# Altium footprint library PcbLib1.PcbLib: 30 footprints (part 1 of 2)
Each footprint in its own frame and in the unit in brackets; x right, y up, seen from the top. Pads: shape width x height; smd on the part's side, far side on the other; paste and mask are expansions set on the pad; w line width, h text height; cw(c..) or ccw(c..) is an arc to the next point about the centre after c.
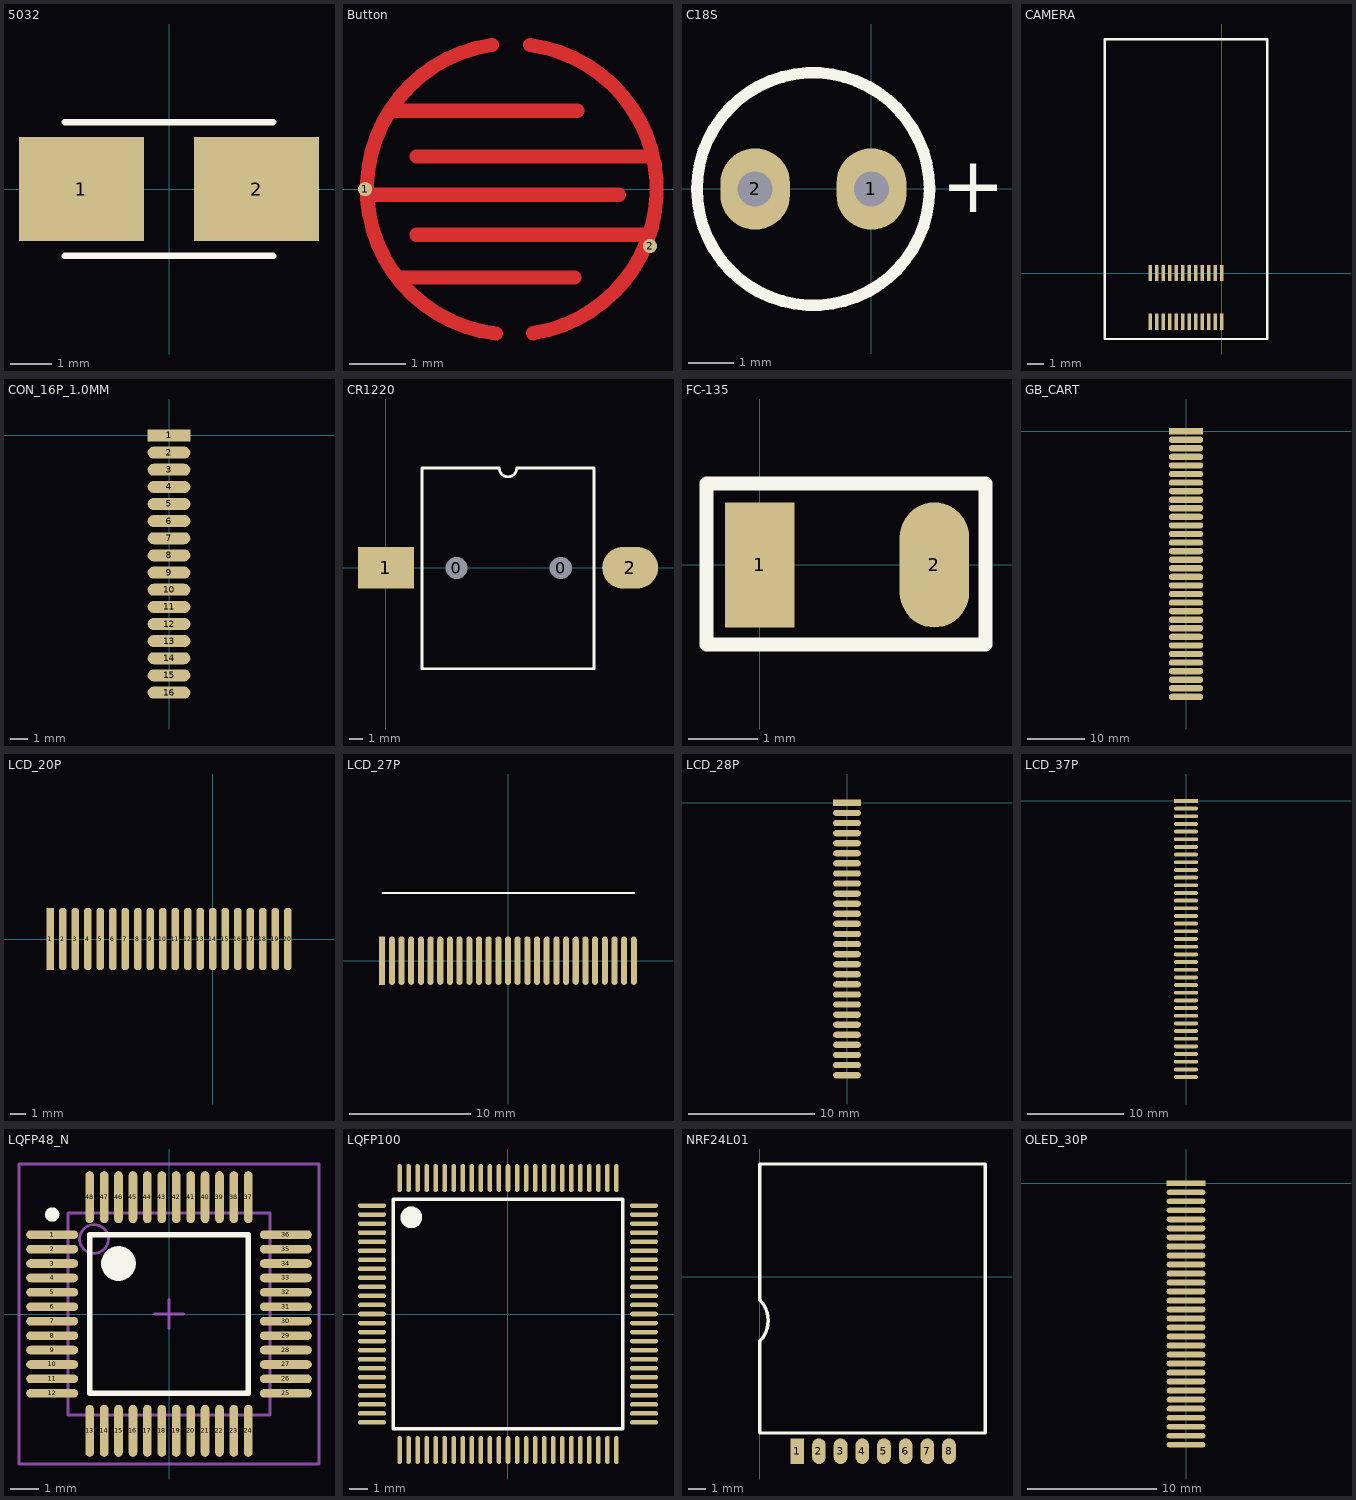
[diagram p0: the footprints below, top view; thin cyan lines are the x and y axes]

## 5032 [mm]
pads (2):
  rect 3x2.5 smd: 1(-2.1,0) 2(2.1,0)
Top Overlay:
  lines w0.152: -2.5,-1.6 2.5,-1.6 ; -2.5,1.6 2.5,1.6

## Button [mil]
pads (2):
  round 10 smd: 1(120,0) 2(320,-40)
Top Layer:
  lines w10: 124,-4 298,-4 ; 138,55 269,55 ; 143,-62 267,-62 ; 156,-32 319,-32 320,-31 ; 156,23 321,23 ; 208.82,101.24 ccw(c223.45,0.14) 211.96,-101.38 ; 235.89,101.15 cw(c222.55,-0.14) 238.02,-101.12
Top Paste:
  lines w10: 123,-4 298,-4 ; 138,55 269,55 ; 143,-62 267,-62 ; 156,-32 318,-32 ; 156,23 321,23 ; 208.82,101.24 ccw(c223.45,0.14) 211.96,-101.38 ; 235.89,101.15 cw(c222.55,-0.14) 238.02,-101.12
Top Solder:
  lines w14: 123,-4 298,-4 ; 138,55 269,55 ; 141,-63 142,-62 267,-62 ; 156,-32 318,-32 ; 156,23 322,23 ; 208.82,101.24 ccw(c223.45,0.14) 211.96,-101.38 ; 236.32,101.63 cw(c223,0.5) 238.44,-100.32

## C18S [mil]
pads (2):
  oval 60x70 hole 30: 1(0,0) 2(-100,0)
Top Overlay:
  circle w10: c-50,0 r100
  text "+" at 60,-20 h48

## CAMERA [mm]
pads (24):
  rect 0.2x1 smd: 1(0,0) 2(-0.4,0) 3(-0.8,0) 4(-1.2,0) 5(-1.6,0) 6(-2,0) 7(-2.4,0) 8(-2.8,0) 9(-3.2,0) 10(-3.6,0) 11(-4,0) 12(-4.4,0) 13(-4.4,-3) 14(-4,-3) 15(-3.6,-3) 16(-3.2,-3) 17(-2.8,-3) 18(-2.4,-3) 19(-2,-3) 20(-1.6,-3) 21(-1.2,-3) 22(-0.8,-3) 23(-0.4,-3) 24(0,-3)
Top Overlay:
  lines w0.152: -7.204,-4.065 -7.204,14.435 ; -7.204,14.451 -7.178,14.426 2.804,14.426 ; -7.2,-4.065 2.8,-4.065 ; 2.804,-4.065 2.804,14.435

## CON_16P_1.0MM [mm]
pads (16):
  rect 2.5x0.7 smd: 1(0,0)
  oval 2.5x0.7 smd: 2(0,-1) 3(0,-2) 4(0,-3) 5(0,-4) 6(0,-5) 7(0,-6) 8(0,-7) 9(0,-8) 10(0,-9) 11(0,-10) 12(0,-11) 13(0,-12) 14(0,-13) 15(0,-14) 16(0,-15)

## CR1220 [mm]
pads (4):
  round 1.5 hole 1.6: 0(5.055,-0.025) 0(12.522,-0.025)
  rect 4x3 smd: 1(0,0)
  oval 4x3 smd: 2(17.5,0)
Top Overlay:
  lines w0.2: 2.585,-7.239 14.915,-7.239 14.915,7.143 9.375,7.143 cw(c8.75,7.143) 8.125,7.143 2.585,7.143 2.585,-7.239

## FC-135 [mm]
pads (2):
  rect 1x1.8 smd: 1(0,0)
  oval 1x1.8 smd: 2(2.515,0)
Top Overlay:
  lines w0.2: -0.762,-1.143 3.251,-1.143 3.251,1.168 -0.762,1.168 -0.762,-1.143

## GB_CART [mm]
pads (32):
  rect 6x1.1 smd: 1(0,0)
  oval 6x1.1 smd: 2(0,-1.5) 3(0,-3) 4(0,-4.5) 5(0,-6) 6(0,-7.5) 7(0,-9) 8(0,-10.5) 9(0,-12) 10(0,-13.5) 11(0,-15) 12(0,-16.5) 13(0,-18) 14(0,-19.5) 15(0,-21) 16(0,-22.5) 17(0,-24) 18(0,-25.5) 19(0,-27) 20(0,-28.5) 21(0,-30) 22(0,-31.5) 23(0,-33) 24(0,-34.5) 25(0,-36) 26(0,-37.5) 27(0,-39) 28(0,-40.5) 29(0,-42) 30(0,-43.5) 31(0,-45) 32(0,-46.5)

## LCD_20P [mm]
pads (20):
  rect 0.5x4 smd: 1(-10.4,0)
  oval 0.5x4 smd: 2(-9.6,0) 3(-8.8,0) 4(-8,0) 5(-7.2,0) 6(-6.4,0) 7(-5.6,0) 8(-4.8,0) 9(-4,0) 10(-3.2,0) 11(-2.4,0) 12(-1.6,0) 13(-0.8,0) 14(0,0) 15(0.8,0) 16(1.6,0) 17(2.4,0) 18(3.2,0) 19(4,0) 20(4.8,0)

## LCD_27P [mm]
pads (27):
  rect 0.5x4 smd: 1(-10.4,0)
  oval 0.5x4 smd: 2(-9.6,0) 3(-8.8,0) 4(-8,0) 5(-7.2,0) 6(-6.4,0) 7(-5.6,0) 8(-4.8,0) 9(-4,0) 10(-3.2,0) 11(-2.4,0) 12(-1.6,0) 13(-0.8,0) 14(0,0) 15(0.8,0) 16(1.6,0) 17(2.4,0) 18(3.2,0) 19(4,0) 20(4.8,0) 21(5.6,0) 22(6.4,0) 23(7.2,0) 24(8,0) 25(8.8,0) 26(9.6,0) 27(10.4,0)
Top Overlay:
  lines w0.152: -10.4,5.588 10.428,5.588

## LCD_28P [mm]
pads (28):
  rect 2.2x0.5 smd: 1(0,0)
  oval 2.2x0.5 smd: 2(0,-0.8) 3(0,-1.6) 4(0,-2.4) 5(0,-3.2) 6(0,-4) 7(0,-4.8) 8(0,-5.6) 9(0,-6.4) 10(0,-7.2) 11(0,-8) 12(0,-8.8) 13(0,-9.6) 14(0,-10.4) 15(0,-11.2) 16(0,-12) 17(0,-12.8) 18(0,-13.6) 19(0,-14.4) 20(0,-15.2) 21(0,-16) 22(0,-16.8) 23(0,-17.6) 24(0,-18.4) 25(0,-19.2) 26(0,-20) 27(0,-20.8) 28(0,-21.6)

## LCD_37P [mm]
pads (37):
  rect 2.5x0.4 smd: 1(0,0)
  oval 2.5x0.4 smd: 2(0,-0.8) 3(0,-1.6) 4(0,-2.4) 5(0,-3.2) 6(0,-4) 7(0,-4.8) 8(0,-5.6) 9(0,-6.4) 10(0,-7.2) 11(0,-8) 12(0,-8.8) 13(0,-9.6) 14(0,-10.4) 15(0,-11.2) 16(0,-12) 17(0,-12.8) 18(0,-13.6) 19(0,-14.4) 20(0,-15.2) 21(0,-16) 22(0,-16.8) 23(0,-17.6) 24(0,-18.4) 25(0,-19.2) 26(0,-20) 27(0,-20.8) 28(0,-21.6) 29(0,-22.4) 30(0,-23.2) 31(0,-24) 32(0,-24.8) 33(0,-25.6) 34(0,-26.4) 35(0,-27.2) 36(0,-28) 37(0,-28.8)

## LQFP48_N [mm]
pads (48):
  oval 1.8x0.3 smd: 1(-4.05,2.75) 2(-4.05,2.25) 3(-4.05,1.75) 4(-4.05,1.25) 5(-4.05,0.75) 6(-4.05,0.25) 7(-4.05,-0.25) 8(-4.05,-0.75) 9(-4.05,-1.25) 10(-4.05,-1.75) 11(-4.05,-2.25) 12(-4.05,-2.75) 25(4.05,-2.75) 26(4.05,-2.25) 27(4.05,-1.75) 28(4.05,-1.25) 29(4.05,-0.75) 30(4.05,-0.25) 31(4.05,0.25) 32(4.05,0.75) 33(4.05,1.25) 34(4.05,1.75) 35(4.05,2.25) 36(4.05,2.75)
  oval 0.3x1.8 smd: 13(-2.75,-4.05) 14(-2.25,-4.05) 15(-1.75,-4.05) 16(-1.25,-4.05) 17(-0.75,-4.05) 18(-0.25,-4.05) 19(0.25,-4.05) 20(0.75,-4.05) 21(1.25,-4.05) 22(1.75,-4.05) 23(2.25,-4.05) 24(2.75,-4.05) 37(2.75,4.05) 38(2.25,4.05) 39(1.75,4.05) 40(1.25,4.05) 41(0.75,4.05) 42(0.25,4.05) 43(-0.25,4.05) 44(-0.75,4.05) 45(-1.25,4.05) 46(-1.75,4.05) 47(-2.25,4.05) 48(-2.75,4.05)
Top Overlay:
  circle w0.6: c-1.75,1.75 r0.3
  circle w0.25: c-4.05,3.45 r0.125
  lines w0.2: -2.75,-2.75 2.75,-2.75 2.75,2.75 -2.75,2.75 -2.75,-2.75
Mechanical 13:
  circle w0.1: c-2.6,2.6 r0.5
  lines w0.1: -3.5,-3.5 3.5,-3.5 3.5,3.5 -3.5,3.5 -3.5,-3.5
Mechanical 15:
  lines w0.1: -0.5,0 0.5,0 ; 0,-0.5 0,0.5 ; -5.2,-5.2 5.2,-5.2 5.2,5.2 -5.2,5.2 -5.2,-5.2

## LQFP100 [mm]
pads (100):
  oval 1.55x0.25 smd: 1(-7.525,6) 2(-7.525,5.5) 3(-7.525,5) 4(-7.525,4.5) 5(-7.525,4) 6(-7.525,3.5) 7(-7.525,3) 8(-7.525,2.5) 9(-7.525,2) 10(-7.525,1.5) 11(-7.525,1) 12(-7.525,0.5) 13(-7.525,0) 14(-7.525,-0.5) 15(-7.525,-1) 16(-7.525,-1.5) 17(-7.525,-2) 18(-7.525,-2.5) 19(-7.525,-3) 20(-7.525,-3.5) 21(-7.525,-4) 22(-7.525,-4.5) 23(-7.525,-5) 24(-7.525,-5.5) 25(-7.525,-6) 51(7.525,-6) 52(7.525,-5.5) 53(7.525,-5) 54(7.525,-4.5) 55(7.525,-4) 56(7.525,-3.5) 57(7.525,-3) 58(7.525,-2.5) 59(7.525,-2) 60(7.525,-1.5) 61(7.525,-1) 62(7.525,-0.5) 63(7.525,0) 64(7.525,0.5) 65(7.525,1) 66(7.525,1.5) 67(7.525,2) 68(7.525,2.5) 69(7.525,3) 70(7.525,3.5) 71(7.525,4) 72(7.525,4.5) 73(7.525,5) 74(7.525,5.5) 75(7.525,6)
  oval 0.25x1.55 smd: 26(-6,-7.525) 27(-5.5,-7.525) 28(-5,-7.525) 29(-4.5,-7.525) 30(-4,-7.525) 31(-3.5,-7.525) 32(-3,-7.525) 33(-2.5,-7.525) 34(-2,-7.525) 35(-1.5,-7.525) 36(-1,-7.525) 37(-0.5,-7.525) 38(0,-7.525) 39(0.5,-7.525) 40(1,-7.525) 41(1.5,-7.525) 42(2,-7.525) 43(2.5,-7.525) 44(3,-7.525) 45(3.5,-7.525) 46(4,-7.525) 47(4.5,-7.525) 48(5,-7.525) 49(5.5,-7.525) 50(6,-7.525) 76(6,7.525) 77(5.5,7.525) 78(5,7.525) 79(4.5,7.525) 80(4,7.525) 81(3.5,7.525) 82(3,7.525) 83(2.5,7.525) 84(2,7.525) 85(1.5,7.525) 86(1,7.525) 87(0.5,7.525) 88(0,7.525) 89(-0.5,7.525) 90(-1,7.525) 91(-1.5,7.525) 92(-2,7.525) 93(-2.5,7.525) 94(-3,7.525) 95(-3.5,7.525) 96(-4,7.525) 97(-4.5,7.525) 98(-5,7.525) 99(-5.5,7.525) 100(-6,7.525)
Top Overlay:
  circle w0.6: c-5.35,5.35 r0.3
  lines w0.203: -6.35,-6.35 -6.35,6.35 6.35,6.35 6.35,-6.35 -6.35,-6.35

## NRF24L01 [mm]
pads (8):
  rect 0.8x1.5 smd: 1(2.184,-10.211)
  oval 0.8x1.5 smd: 2(3.454,-10.211) 3(4.724,-10.211) 4(5.994,-10.211) 5(7.264,-10.211) 6(8.534,-10.211) 7(9.804,-10.211) 8(11.074,-10.211)
Top Overlay:
  lines w0.2: 0,-9.144 0,-3.766 ccw(c-1.26,-2.56) 0,-1.354 0,6.604 13.208,6.604 13.208,-9.144 0,-9.144

## OLED_30P [mm]
pads (30):
  rect 3x0.45 smd: 1(0,0)
  oval 3x0.45 smd: 2(0,-0.7) 3(0,-1.4) 4(0,-2.1) 5(0,-2.8) 6(0,-3.5) 7(0,-4.2) 8(0,-4.9) 9(0,-5.6) 10(0,-6.3) 11(0,-7) 12(0,-7.7) 13(0,-8.4) 14(0,-9.1) 15(0,-9.8) 16(0,-10.5) 17(0,-11.2) 18(0,-11.9) 19(0,-12.6) 20(0,-13.3) 21(0,-14) 22(0,-14.7) 23(0,-15.4) 24(0,-16.1) 25(0,-16.8) 26(0,-17.5) 27(0,-18.2) 28(0,-18.9) 29(0,-19.6) 30(0,-20.3)